# Altium schematic symbol library Panasonic-EEEFT_EEEH.SCHLIB: 7 symbols
Pins are listed as number, name and electrical type; pins without a type are passive.

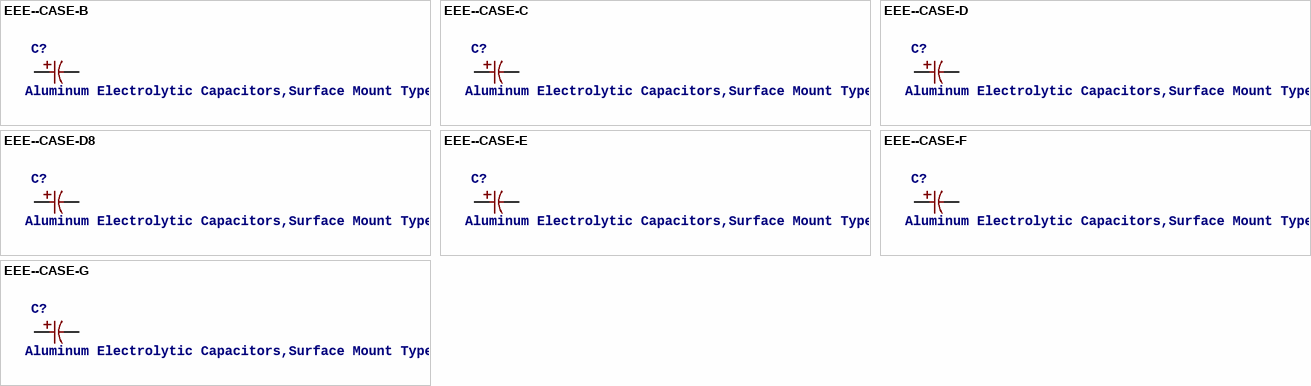
[diagram p0: symbols EEE--CASE-B to EEE--CASE-G]

## EEE--CASE-B
designator C?, comment Aluminum Electrolytic Capacitors,Surface Mount Type
MPN: EEE-FT0J101AR; MPN: EEE-FT1A680AR; MPN: EEE-FT1C470AR; MPN: EEE-FT1E220AR; MPN: EEE-FT1E330AR; MPN: EEE-FT1V220AR; MPN: EEE-FTH100UAR; MPN: EEE-HA0J220R; MPN: EEE-HA0J330WR; MPN: EEE-HA0J470WR; MPN: EEE-HA1A220WR; MPN: EEE-HA1A330WR; MPN: EEE-HA1C100R; MPN: EEE-HA1C220WR; MPN: EEE-HA1E100WR; MPN: EEE-HA1E4R7R; MPN: EEE-HA1H1R0R; MPN: EEE-HA1H2R2R; MPN: EEE-HA1H3R3R; MPN: EEE-HA1HR10R; MPN: EEE-HA1HR22R; MPN: EEE-HA1HR33R; MPN: EEE-HA1HR47R; MPN: EEE-HA1V100WR; MPN: EEE-HA1V4R7R; MPN: EEE-HB0J220R; MPN: EEE-HB1C100R; MPN: EEE-HB1E4R7R; MPN: EEE-HB1H1R0R; MPN: EEE-HB1H2R2R; MPN: EEE-HC0J220R; MPN: EEE-HC1C100R; MPN: EEE-HC1H1R0R; MPN: EEE-HC1H2R2R; MPN: EEE-HC1H3R3R; MPN: EEE-HC1HR10R; MPN: EEE-HC1HR33R; MPN: EEE-HC1HR47R; TOLERANCE: ±20 %; VOLTAGERATING: 6.3V; VOLTAGERATING: 10V; VOLTAGERATING: 16V; VOLTAGERATING: 25V; VOLTAGERATING: 35V; VOLTAGERATING: 50V; OC_FARNELL: 2065951; OC_NEWARK: 73T9146; PACKAGE: CASE-B; SUPPLIER: PANASONIC; OC_FARNELL: 2065959; OC_NEWARK: 73T9155; OC_FARNELL: 2065967; OC_NEWARK: 73T9160; OC_FARNELL: 1868402; OC_NEWARK: 31T8175; OC_FARNELL: 1868403; OC_NEWARK: 53W8320; OC_FARNELL: 1868413; OC_NEWARK: 31T8187; OC_FARNELL: 1868422; OC_NEWARK: 31T8171; OC_FARNELL: 1973274; OC_NEWARK: 58T9198; OC_FARNELL: 1973275; OC_NEWARK: 58T9199; OC_FARNELL: 1973276; OC_NEWARK: 58T9204; OC_FARNELL: 1973288; OC_NEWARK: 58T9209; OC_FARNELL: 1973291; OC_NEWARK: 58T9213; OC_FARNELL: 1973301; OC_NEWARK: 58T9217; OC_FARNELL: 1973302; OC_NEWARK: 58T9220; OC_FARNELL: 1973318; OC_NEWARK: 58T9233; OC_FARNELL: 1973317; OC_NEWARK: 58T9245; OC_FARNELL: 1973358; OC_NEWARK: 58T9253; OC_FARNELL: 1973359; OC_NEWARK: 58T9257; OC_FARNELL: 1973360; OC_NEWARK: 58T9260; OC_FARNELL: 1973353; OC_NEWARK: 58T9249; OC_FARNELL: 1973354; OC_NEWARK: 58T9250; OC_FARNELL: 1973355; OC_NEWARK: 58T9251; OC_FARNELL: 1973357; OC_NEWARK: unknown; OC_FARNELL: 1973338; OC_NEWARK: 58T9275; OC_FARNELL: 1973337; OC_NEWARK: 58T9286; OC_FARNELL: 9696750; OC_NEWARK: 96K9411; OC_FARNELL: 9696792; OC_NEWARK: 96K9414; OC_FARNELL: 9696822; OC_NEWARK: 96K9418; OC_FARNELL: 9696857; OC_NEWARK: 96K9419; OC_FARNELL: 9696865; OC_NEWARK: 96K9421; OC_FARNELL: 1714683; OC_NEWARK: 15R0902; OC_FARNELL: 1714692; OC_NEWARK: 15R0908; OC_FARNELL: 1714712; OC_NEWARK: 15R0921; OC_FARNELL: 1714713; OC_NEWARK: 15R0924; OC_FARNELL: 1714714; OC_NEWARK: 15R0926; OC_FARNELL: 1714708; OC_NEWARK: 15R0917; OC_FARNELL: 1714710; OC_NEWARK: 15R0919; OC_FARNELL: 1714711; OC_NEWARK: 15R0920
footprint CAPAE430X610N
pins: 1, 2

## EEE--CASE-C
designator C?, comment Aluminum Electrolytic Capacitors,Surface Mount Type
MPN: EEE-FT0J221AR; MPN: EEE-FT1A151AR; MPN: EEE-FT1C101AR; MPN: EEE-FT1C680AR; MPN: EEE-FT1E470AR; MPN: EEE-FT1E680AR; MPN: EEE-FT1H100AR; MPN: EEE-FT1H220AR; MPN: EEE-FT1V470AR; MPN: EEE-HA0J101WR; MPN: EEE-HA0J470R; MPN: EEE-HA1A330R; MPN: EEE-HA1A470WR; MPN: EEE-HA1C220R; MPN: EEE-HA1C330WR; MPN: EEE-HA1C470WR; MPN: EEE-HA1E100R; MPN: EEE-HA1E220WR; MPN: EEE-HA1E330WR; MPN: EEE-HA1H4R7R; MPN: EEE-HA1V100R; MPN: EEE-HA1V220WR; MPN: EEE-HB0J470R; MPN: EEE-HB1A330R; MPN: EEE-HB1V100R; MPN: EEE-HC0J470R; MPN: EEE-HC1A330R; MPN: EEE-HC1C220R; MPN: EEE-HC1H4R7R; MPN: EEE-HC1V100R; TOLERANCE: ±20 %; VOLTAGERATING: 6.3V; VOLTAGERATING: 10V; VOLTAGERATING: 16V; VOLTAGERATING: 25V; VOLTAGERATING: 50V; VOLTAGERATING: 35V; OC_FARNELL: 2065953; OC_NEWARK: 73T9148; PACKAGE: CASE-C; SUPPLIER: PANASONIC; OC_FARNELL: 2065960; OC_NEWARK: 73T9152; OC_FARNELL: 2065969; OC_NEWARK: 73T9156; OC_FARNELL: 2065968; OC_NEWARK: 73T9161; OC_FARNELL: 1868404; OC_NEWARK: 31T8177; OC_FARNELL: 1868405; OC_NEWARK: 31T8179; OC_FARNELL: 1868423; OC_NEWARK: 31T8181; OC_FARNELL: 1868424; OC_NEWARK: 31T8182; OC_FARNELL: 1868415; OC_NEWARK: 31T8190; OC_FARNELL: 1973279; OC_NEWARK: 58T9194; OC_FARNELL: 1973278; OC_NEWARK: 58T9203; OC_FARNELL: 1973292; OC_NEWARK: unknown; OC_FARNELL: 1973293; OC_NEWARK: 58T9214; OC_FARNELL: 1973303; OC_NEWARK: 58T9219; OC_FARNELL: 1973304; OC_NEWARK: 58T9224; OC_FARNELL: 1973305; OC_NEWARK: 58T9228; OC_FARNELL: 1973321; OC_NEWARK: 58T9232; OC_FARNELL: 1973322; OC_NEWARK: 58T9238; OC_FARNELL: 1973324; OC_NEWARK: 58T9242; OC_FARNELL: 1973361; OC_NEWARK: 58T9264; OC_FARNELL: 1973339; OC_NEWARK: 58T9274; OC_FARNELL: 1973340; OC_NEWARK: 58T9280; OC_FARNELL: 9696768; OC_NEWARK: 96K9412; OC_FARNELL: 9696784; OC_NEWARK: 96K9413; OC_FARNELL: 9696849; OC_NEWARK: 96K9422; OC_FARNELL: 1714684; OC_NEWARK: 15R0905; OC_FARNELL: 1714690; OC_NEWARK: 15R0907; OC_FARNELL: 1714693; OC_NEWARK: 15R0910; OC_FARNELL: 1714716; OC_NEWARK: 15R0928; OC_FARNELL: 1714704; OC_NEWARK: 15R0930
footprint CAPAE530X610N
pins: 1, 2

## EEE--CASE-D
designator C?, comment Aluminum Electrolytic Capacitors,Surface Mount Type
MPN: EEE-FT0J331AP; MPN: EEE-FT1A221AP; MPN: EEE-FT1C151AP; MPN: EEE-FT1C221AP; MPN: EEE-FT1E101AP; MPN: EEE-FT1H470AP; MPN: EEE-FT1V101AP; MPN: EEE-FT1V680AP; MPN: EEE-HA0J101P; MPN: EEE-HA0J221WP; MPN: EEE-HA1A101WP; MPN: EEE-HA1C101WP; MPN: EEE-HA1C470P; MPN: EEE-HA1E220P; MPN: EEE-HA1E330P; MPN: EEE-HA1E470WP; MPN: EEE-HA1H100P; MPN: EEE-HA1V220P; MPN: EEE-HA1V330WP; MPN: EEE-HB0J101P; MPN: EEE-HB1C470P; MPN: EEE-HB1H100P; MPN: EEE-HC0J101P; MPN: EEE-HC1C470P; MPN: EEE-HC1E330P; MPN: EEE-HC1H100P; MPN: EEE-HC1V220P; TOLERANCE: ±20 %; VOLTAGERATING: 6.3V; VOLTAGERATING: 10V; VOLTAGERATING: 16V; VOLTAGERATING: 25V; VOLTAGERATING: 50V; VOLTAGERATING: 35V; OC_FARNELL: 2065954; OC_NEWARK: unknown; PACKAGE: CASE-D; SUPPLIER: PANASONIC; OC_FARNELL: 2065961; OC_NEWARK: 73T9154; OC_FARNELL: 2065970; OC_NEWARK: 73T9158; OC_FARNELL: 2065971; OC_NEWARK: 73T9159; OC_FARNELL: 1868406; OC_NEWARK: 31T8174; OC_FARNELL: 1868425; OC_NEWARK: 31T8185; OC_FARNELL: 1868417; OC_NEWARK: 31T8186; OC_FARNELL: 1868416; OC_NEWARK: 31T8192; OC_FARNELL: 1973280; OC_NEWARK: 58T9193; OC_FARNELL: 1973281; OC_NEWARK: 58T9199; OC_FARNELL: 1973294; OC_NEWARK: 58T9207; OC_FARNELL: 1973308; OC_NEWARK: 58T9218; OC_FARNELL: 1973306; OC_NEWARK: 58T9227; OC_FARNELL: 1973323; OC_NEWARK: 58T9237; OC_FARNELL: 1973325; OC_NEWARK: 58T9241; OC_FARNELL: 1973326; OC_NEWARK: 58T9247; OC_FARNELL: 1973362; OC_NEWARK: 58T9254; OC_FARNELL: 1973341; OC_NEWARK: 58T9279; OC_FARNELL: 1973342; OC_NEWARK: 58T9284; OC_FARNELL: 9696776; OC_NEWARK: 96K9410; OC_FARNELL: 9696814; OC_NEWARK: 96K9416; OC_FARNELL: 9696873; OC_NEWARK: 96K9420; OC_FARNELL: 1714686; OC_NEWARK: 15R0900; OC_FARNELL: 1714694; OC_NEWARK: 15R0911; OC_FARNELL: 1714698; OC_NEWARK: 15R0914; OC_FARNELL: 1714717; OC_NEWARK: 15R0922; OC_FARNELL: 1714705; OC_NEWARK: 15R0931
footprint CAPAE660X610N
pins: 1, 2

## EEE--CASE-D8
designator C?, comment Aluminum Electrolytic Capacitors,Surface Mount Type
MPN: EEE-FTA331XAP; MPN: EEE-FTA471XAP; MPN: EEE-FTC331XAP; MPN: EEE-FTE151XAP; MPN: EEE-FTE221XAP; MPN: EEE-FTH101XAP; MPN: EEE-FTJ471XAP; MPN: EEE-FTJ681XAP; MPN: EEE-FTV151XAP; MPN: EEE-HA0J331XP; MPN: EEE-HA1A221XP; MPN: EEE-HA1C221XP; MPN: EEE-HA1E101XP; MPN: EEE-HA1H330XP; MPN: EEE-HA1H470XP; MPN: EEE-HA1V101XP; MPN: EEE-HC0J221XP; MPN: EEE-HC1C101XP; MPN: EEE-HC1E470XP; MPN: EEE-HC1H220XP; MPN: EEE-HC1V330XP; TOLERANCE: ±20 %; VOLTAGERATING: 10V; VOLTAGERATING: 16V; VOLTAGERATING: 25V; VOLTAGERATING: 50V; VOLTAGERATING: 6.3V; VOLTAGERATING: 35V; OC_FARNELL: 2065962; OC_NEWARK: 73T9141; PACKAGE: CASE-D8; SUPPLIER: PANASONIC; OC_FARNELL: 2065963; OC_NEWARK: 73T9142; OC_FARNELL: 2065972; OC_NEWARK: 73T9143; OC_FARNELL: 1868407; OC_NEWARK: 31T8169; OC_FARNELL: 1868409; OC_NEWARK: 31T8170; OC_FARNELL: 1868426; OC_NEWARK: 31T8172; OC_FARNELL: 2065955; OC_NEWARK: 73T9144; OC_FARNELL: 2065956; OC_NEWARK: 73T9145; OC_FARNELL: 1868418; OC_NEWARK: 31T8173; OC_FARNELL: 1973282; OC_NEWARK: 58T9202; OC_FARNELL: 1973296; OC_NEWARK: 58T9211; OC_FARNELL: 1973309; OC_NEWARK: 58T9223; OC_FARNELL: 1973328; OC_NEWARK: 58T9236; OC_FARNELL: 1973364; OC_NEWARK: 58T9263; OC_FARNELL: 1973367; OC_NEWARK: 58T9267; OC_FARNELL: 1973347; OC_NEWARK: 58T9278; OC_FARNELL: 1714687; OC_NEWARK: 15R0903; OC_FARNELL: 1714695; OC_NEWARK: 15R0909; OC_FARNELL: 1714699; OC_NEWARK: 15R0916; OC_FARNELL: 1714718; OC_NEWARK: 15R0925; OC_FARNELL: unknown; OC_NEWARK: 54W2514
footprint CAPAE660X800N
pins: 1, 2

## EEE--CASE-E
designator C?, comment Aluminum Electrolytic Capacitors,Surface Mount Type
MPN: EEE-HA1A101P; MPN: EEE-HA1E101UP; MPN: EEE-HA1E470P; MPN: EEE-HA1H220P; MPN: EEE-HA1H330UP; MPN: EEE-HA1J100P; MPN: EEE-HA1J220UP; MPN: EEE-HA1V330P; MPN: EEE-HA1V470UP; MPN: EEE-HA2A3R3P; MPN: EEE-HA2A4R7UP; TOLERANCE: ±20 %; VOLTAGERATING: 10V; VOLTAGERATING: 25V; VOLTAGERATING: 50V; VOLTAGERATING: 63V; VOLTAGERATING: 35V; VOLTAGERATING: 100V; OC_FARNELL: 1973295; OC_NEWARK: 58T9206; PACKAGE: CASE-E; SUPPLIER: PANASONIC; OC_FARNELL: 1973329; OC_NEWARK: 58T9235; OC_FARNELL: 1973327; OC_NEWARK: 58T9246; OC_FARNELL: 1973363; OC_NEWARK: 58T9258; OC_FARNELL: 1973365; OC_NEWARK: 58T9262; OC_FARNELL: 1973375; OC_NEWARK: 58T9268; OC_FARNELL: 1973376; OC_NEWARK: 58T9270; OC_FARNELL: 1973343; OC_NEWARK: 58T9283; OC_FARNELL: 1973345; OC_NEWARK: 58T9288; OC_FARNELL: 1973382; OC_NEWARK: 58T9292; OC_FARNELL: 1973383; OC_NEWARK: 58T9295
footprint CAPAE830X650N
pins: 1, 2

## EEE--CASE-F
designator C?, comment Aluminum Electrolytic Capacitors,Surface Mount Type
MPN: EEE-FT0J152AP; MPN: EEE-FT1A102AP; MPN: EEE-FT1C681AP; MPN: EEE-FT1E471AP; MPN: EEE-FT1H221AP; MPN: EEE-FT1V331AP; MPN: EEE-HA0J102UP; MPN: EEE-HA0J331P; MPN: EEE-HA0J471UP; MPN: EEE-HA1A221P; MPN: EEE-HA1A471UP; MPN: EEE-HA1C221UP; MPN: EEE-HA1C331UP; MPN: EEE-HA1C471UP; MPN: EEE-HA1E101P; MPN: EEE-HA1E221UP; MPN: EEE-HA1E331UP; MPN: EEE-HA1H101UP; MPN: EEE-HA1H330P; MPN: EEE-HA1H470UP; MPN: EEE-HA1J220P; MPN: EEE-HA1J470UP; MPN: EEE-HA1V101UP; MPN: EEE-HA1V221UP; MPN: EEE-HA1V470P; MPN: EEE-HA2A100P; MPN: EEE-HA2A220UP; MPN: EEE-HA2A4R7P; MPN: EEE-HC0J331P; MPN: EEE-HC1A221P; MPN: EEE-HC1E101P; MPN: EEE-HC1H330P; MPN: EEE-HC1H470P; TOLERANCE: ±20 %; VOLTAGERATING: 6.3V; VOLTAGERATING: 10V; VOLTAGERATING: 16V; VOLTAGERATING: 25V; VOLTAGERATING: 50V; VOLTAGERATING: 35V; VOLTAGERATING: 63V; VOLTAGERATING: 100V; OC_FARNELL: 2065957; OC_NEWARK: 73T9147; PACKAGE: CASE-F; SUPPLIER: PANASONIC; OC_FARNELL: 2065965; OC_NEWARK: 73T9151; OC_FARNELL: 2065973; OC_NEWARK: 73T9162; OC_FARNELL: 1868411; OC_NEWARK: 31T8178; OC_FARNELL: 1868427; OC_NEWARK: 31T8183; OC_FARNELL: 1868419; OC_NEWARK: 31T8189; OC_FARNELL: 1973285; OC_NEWARK: 58T9196; OC_FARNELL: 1973283; OC_NEWARK: 58T9201; OC_FARNELL: 1973284; OC_NEWARK: 58T9205; OC_FARNELL: 1973297; OC_NEWARK: 58T9210; OC_FARNELL: 1973298; OC_NEWARK: 58T9216; OC_FARNELL: 1973310; OC_NEWARK: 58T9222; OC_FARNELL: 1973312; OC_NEWARK: 58T9226; OC_FARNELL: 1973314; OC_NEWARK: 58T9230; OC_FARNELL: 1973330; OC_NEWARK: 58T9234; OC_FARNELL: 1973331; OC_NEWARK: 58T9240; OC_FARNELL: 1973334; OC_NEWARK: 58T9244; OC_FARNELL: 1973372; OC_NEWARK: 58T9256; OC_FARNELL: 1973366; OC_NEWARK: 58T9261; OC_FARNELL: 1973369; OC_NEWARK: 58T9266; OC_FARNELL: 1973377; OC_NEWARK: 58T9269; OC_FARNELL: 1973379; OC_NEWARK: 58T9273; OC_FARNELL: 1973348; OC_NEWARK: 58T9277; OC_FARNELL: 1973350; OC_NEWARK: 58T9282; OC_FARNELL: 1973346; OC_NEWARK: 58T9287; OC_FARNELL: 1973385; OC_NEWARK: 58T9289; OC_FARNELL: 1973386; OC_NEWARK: 58T9291; OC_FARNELL: 1973384; OC_NEWARK: 58T9294; OC_FARNELL: 1714688; OC_NEWARK: 15R0904; OC_FARNELL: 1714691; OC_NEWARK: 15R0906; OC_FARNELL: 1714700; OC_NEWARK: 15R0913; OC_FARNELL: 1714719; OC_NEWARK: 15R0927; OC_FARNELL: 1714720; OC_NEWARK: 15R0929
footprint CAPAE830X1050N
pins: 1, 2

## EEE--CASE-G
designator C?, comment Aluminum Electrolytic Capacitors,Surface Mount Type
MPN: EEE-FT0J222AP; MPN: EEE-FT1A152AP; MPN: EEE-FT1C102AP; MPN: EEE-FT1E821AP; MPN: EEE-FT1H331AP; MPN: EEE-FT1V561AP; MPN: EEE-HA0J102P; MPN: EEE-HA0J152P; MPN: EEE-HA1A102P; MPN: EEE-HA1A471P; MPN: EEE-HA1C221P; MPN: EEE-HA1C331P; MPN: EEE-HA1C471P; MPN: EEE-HA1C681P; MPN: EEE-HA1E221P; MPN: EEE-HA1E331P; MPN: EEE-HA1E471P; MPN: EEE-HA1H101P; MPN: EEE-HA1H221P; MPN: EEE-HA1H470P; MPN: EEE-HA1J330P; MPN: EEE-HA1J470P; MPN: EEE-HA1V101P; MPN: EEE-HA1V221P; MPN: EEE-HA1V331P; MPN: EEE-HA2A220P; MPN: EEE-HA2A330P; MPN: EEE-HA2A470UP; MPN: EEE-HB1E221P; MPN: EEE-HC0J102P; MPN: EEE-HC1C471P; MPN: EEE-HC1E331P; MPN: EEE-HC1H101P; MPN: EEE-HC1V221P; TOLERANCE: ±20 %; VOLTAGERATING: 6.3V; VOLTAGERATING: 10V; VOLTAGERATING: 16V; VOLTAGERATING: 25V; VOLTAGERATING: 50V; VOLTAGERATING: 35V; VOLTAGERATING: 63V; VOLTAGERATING: 100V; OC_FARNELL: 2065958; OC_NEWARK: 73T9149; PACKAGE: CASE-G; SUPPLIER: PANASONIC; OC_FARNELL: 2065966; OC_NEWARK: 73T9153; OC_FARNELL: 2065974; OC_NEWARK: 73T9157; OC_FARNELL: 1868412; OC_NEWARK: 31T8180; OC_FARNELL: 1868428; OC_NEWARK: 31T8184; OC_FARNELL: 1868420; OC_NEWARK: 31T8191; OC_FARNELL: 1973286; OC_NEWARK: 58T9195; OC_FARNELL: 1973287; OC_NEWARK: 58T9197; OC_FARNELL: 1973300; OC_NEWARK: 58T9208; OC_FARNELL: 1973299; OC_NEWARK: unknown; OC_FARNELL: 1973311; OC_NEWARK: 58T9221; OC_FARNELL: 1973313; OC_NEWARK: 58T9225; OC_FARNELL: 1973315; OC_NEWARK: 58T9229; OC_FARNELL: 1973316; OC_NEWARK: 58T9231; OC_FARNELL: 1973333; OC_NEWARK: 58T9239; OC_FARNELL: 1973335; OC_FARNELL: 1973336; OC_NEWARK: 58T9248; OC_FARNELL: 1973373; OC_NEWARK: 58T9255; OC_FARNELL: 1973374; OC_NEWARK: 58T9259; OC_FARNELL: 1973371; OC_NEWARK: 58T9265; OC_FARNELL: 1973378; OC_FARNELL: 1973380; OC_NEWARK: 58T9272; OC_FARNELL: 1973349; OC_NEWARK: 58T9276; OC_FARNELL: 1973351; OC_NEWARK: 58T9281; OC_FARNELL: 1973352; OC_NEWARK: 58T9285; OC_FARNELL: 1973387; OC_NEWARK: 58T9290; OC_FARNELL: 1973388; OC_NEWARK: 58T9293; OC_FARNELL: 1973389; OC_NEWARK: 58T9296; OC_FARNELL: 9696830; OC_NEWARK: 96K9417; OC_FARNELL: 1714689; OC_NEWARK: 15R0901; OC_FARNELL: 1714696; OC_NEWARK: 15R0912; OC_FARNELL: 1714701; OC_NEWARK: 15R0915; OC_FARNELL: 1714721; OC_NEWARK: 15R0923; OC_FARNELL: 1714707; OC_NEWARK: 15R0932
footprint CAPAE1030X1050N
pins: 1, 2